# EAGLE library part MP2359 (library dc-dc)
TSOT-23-6 DC-DC Converters RoHS
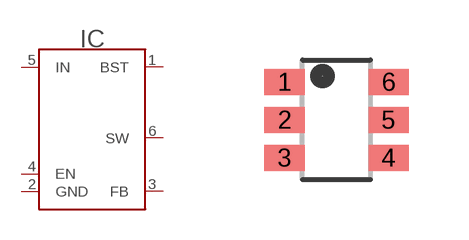
[diagram p11: symbol with the pads of SOT23-6; footprint SOT23-6]

Designator prefix IC

## MP2359 (LCSC#: C14259; MANF: Monolithic Power Systems; MANF#: MP2359DJ-LF-Z)  [SOT23-6]
1  BST
2  GND
3  FB
4  EN
5  IN
6  SW

## Footprint SOT23-6 (pad centres in mm)
smd 1 x 0.65: 1 -1.3,0.95; 2 -1.3,0; 3 -1.3,-0.95; 4 1.3,-0.95; 5 1.3,0; 6 1.3,0.95